# Altium integrated library ALPHA Audio Processor.IntLib: 90 symbols (part 2 of 2)
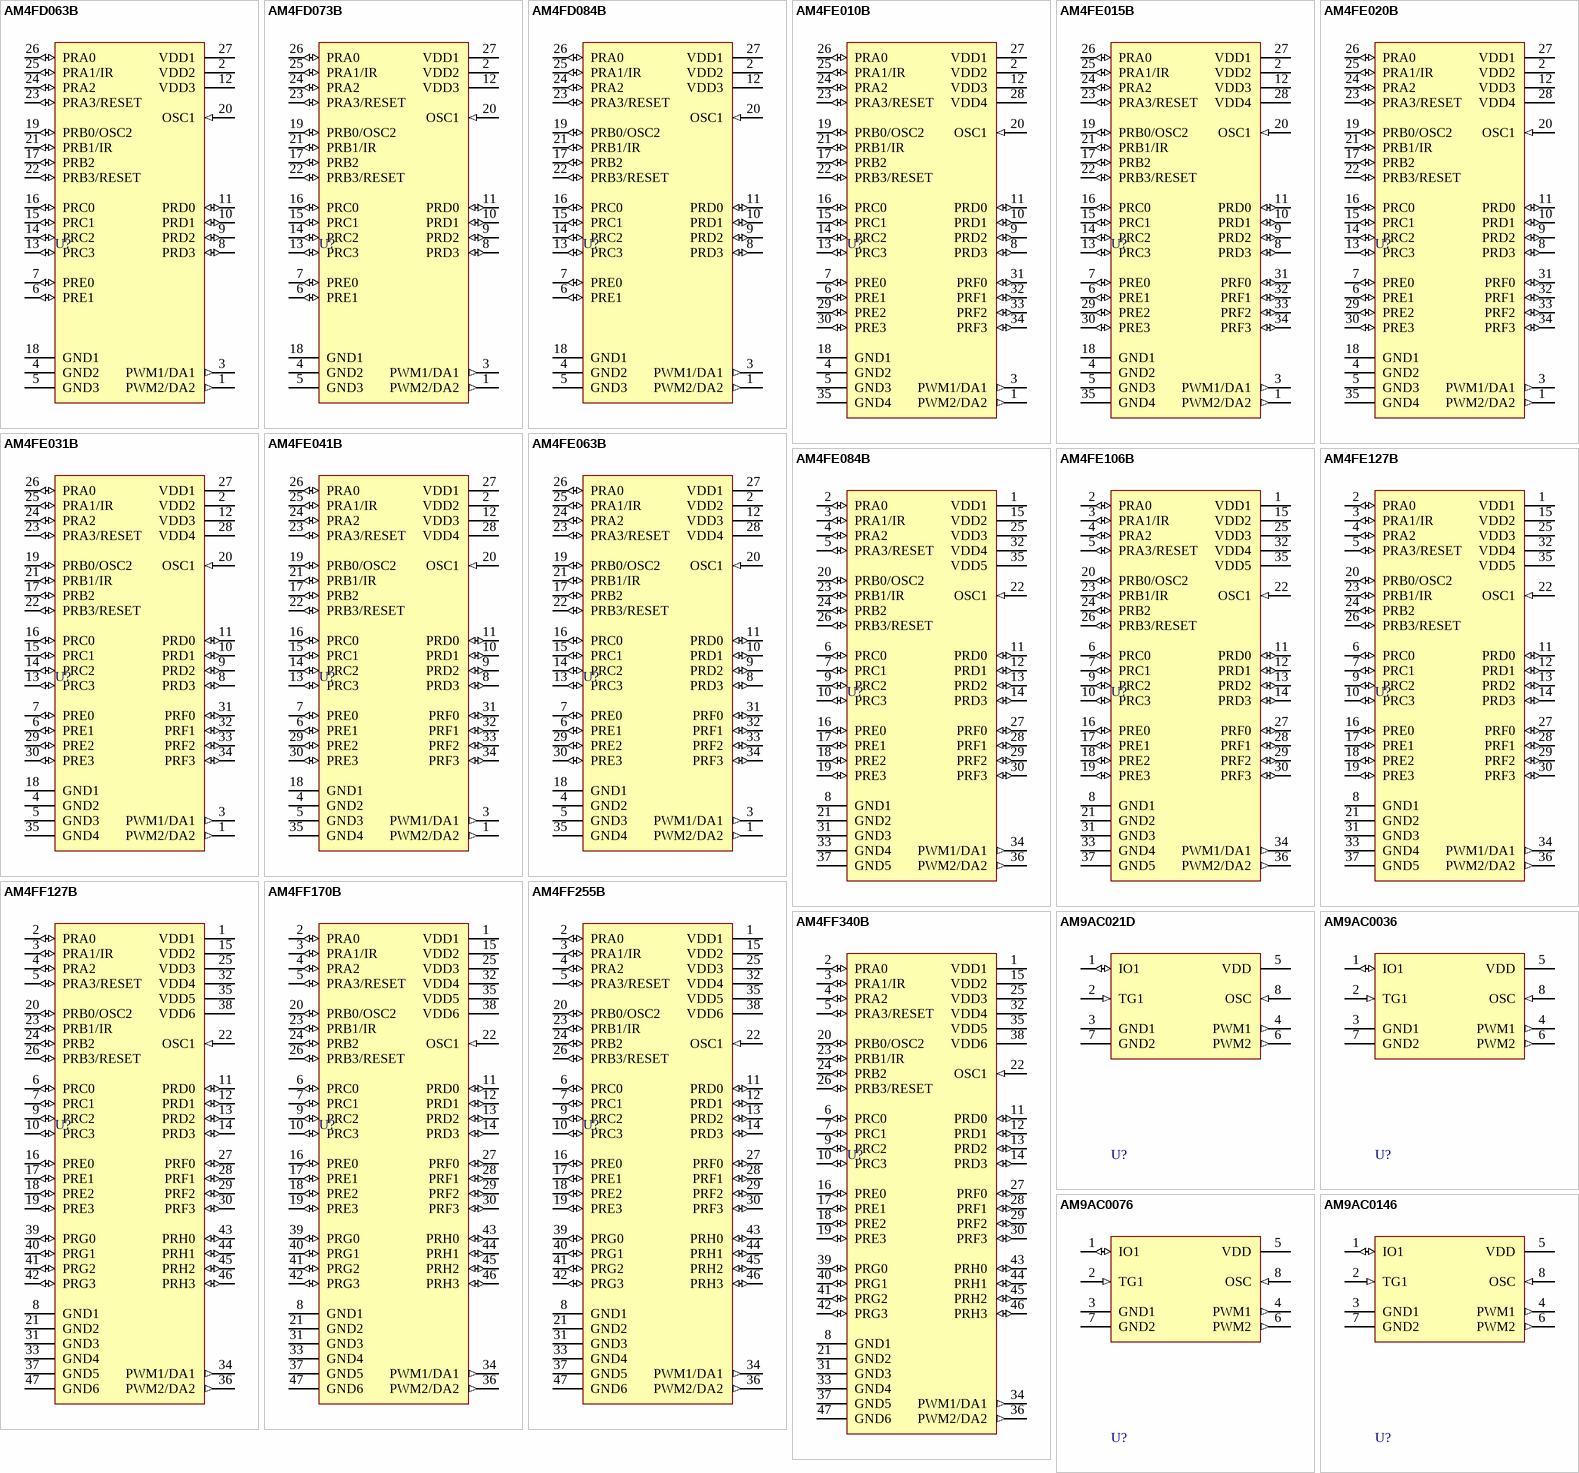
[diagram p4: symbols AM4FD063B to AM9AC0146]

## AM4FF127B
designator U?
AM4FE Series 4-Bit Audio Synthesizer with 127 Second Voice Duration and 384k x 12-Bit ROM, Chip Form; PackageForm: Supplied as a Die.; Note: The IC substrate must be connected to GND.; Published: 30-Mar-2007; DatasheetVersion: rev1.2, 2005; PackageReference: Chip_Form; Publisher: Altium Limited; ComponentLink1Description: Manufacturer Link; ComponentLink1URL: http://www.ealpha.com.tw/
pins: 1 VDD1 (power), 2 PRA0 (io), 3 PRA1/IR (io), 4 PRA2 (io), 5 PRA3/RESET (io), 6 PRC0 (io), 7 PRC1 (io), 8 GND1 (power), 9 PRC2 (io), 10 PRC3 (io), 11 PRD0 (io), 12 PRD1 (io), 13 PRD2 (io), 14 PRD3 (io), 15 VDD2 (power), 16 PRE0 (io), 17 PRE1 (io), 18 PRE2 (io), 19 PRE3 (io), 20 PRB0/OSC2 (io), 21 GND2 (power), 22 OSC1 (in), 23 PRB1/IR (io), 24 PRB2 (io), 25 VDD3 (power), 26 PRB3/RESET (io), 27 PRF0 (io), 28 PRF1 (io), 29 PRF2 (io), 30 PRF3 (io), 31 GND3 (power), 32 VDD4 (power), 33 GND4 (power), 34 PWM1/DA1 (out), 35 VDD5 (power), 36 PWM2/DA2 (out), 37 GND5 (power), 38 VDD6 (power), 39 PRG0 (io), 40 PRG1 (io), 41 PRG2 (io), 42 PRG3 (io), 43 PRH0 (io), 44 PRH1 (io), 45 PRH2 (io), 46 PRH3 (io), 47 GND6 (power)

## AM4FF170B
designator U?
AM4FE Series 4-Bit Audio Synthesizer with 170 Second Voice Duration and 512k x 12-Bit ROM, Chip Form; PackageForm: Supplied as a Die.; Note: The IC substrate must be connected to GND.; Published: 30-Mar-2007; DatasheetVersion: rev1.2, 2005; PackageReference: Chip_Form; Publisher: Altium Limited; ComponentLink1Description: Manufacturer Link; ComponentLink1URL: http://www.ealpha.com.tw/
pins: 1 VDD1 (power), 2 PRA0 (io), 3 PRA1/IR (io), 4 PRA2 (io), 5 PRA3/RESET (io), 6 PRC0 (io), 7 PRC1 (io), 8 GND1 (power), 9 PRC2 (io), 10 PRC3 (io), 11 PRD0 (io), 12 PRD1 (io), 13 PRD2 (io), 14 PRD3 (io), 15 VDD2 (power), 16 PRE0 (io), 17 PRE1 (io), 18 PRE2 (io), 19 PRE3 (io), 20 PRB0/OSC2 (io), 21 GND2 (power), 22 OSC1 (in), 23 PRB1/IR (io), 24 PRB2 (io), 25 VDD3 (power), 26 PRB3/RESET (io), 27 PRF0 (io), 28 PRF1 (io), 29 PRF2 (io), 30 PRF3 (io), 31 GND3 (power), 32 VDD4 (power), 33 GND4 (power), 34 PWM1/DA1 (out), 35 VDD5 (power), 36 PWM2/DA2 (out), 37 GND5 (power), 38 VDD6 (power), 39 PRG0 (io), 40 PRG1 (io), 41 PRG2 (io), 42 PRG3 (io), 43 PRH0 (io), 44 PRH1 (io), 45 PRH2 (io), 46 PRH3 (io), 47 GND6 (power)

## AM4FF255B
designator U?
AM4FE Series 4-Bit Audio Synthesizer with 255 Second Voice Duration and 768k x 12-Bit ROM, Chip Form; PackageForm: Supplied as a Die.; Note: The IC substrate must be connected to GND.; Published: 30-Mar-2007; DatasheetVersion: rev1.2, 2005; PackageReference: Chip_Form; Publisher: Altium Limited; ComponentLink1Description: Manufacturer Link; ComponentLink1URL: http://www.ealpha.com.tw/
pins: 1 VDD1 (power), 2 PRA0 (io), 3 PRA1/IR (io), 4 PRA2 (io), 5 PRA3/RESET (io), 6 PRC0 (io), 7 PRC1 (io), 8 GND1 (power), 9 PRC2 (io), 10 PRC3 (io), 11 PRD0 (io), 12 PRD1 (io), 13 PRD2 (io), 14 PRD3 (io), 15 VDD2 (power), 16 PRE0 (io), 17 PRE1 (io), 18 PRE2 (io), 19 PRE3 (io), 20 PRB0/OSC2 (io), 21 GND2 (power), 22 OSC1 (in), 23 PRB1/IR (io), 24 PRB2 (io), 25 VDD3 (power), 26 PRB3/RESET (io), 27 PRF0 (io), 28 PRF1 (io), 29 PRF2 (io), 30 PRF3 (io), 31 GND3 (power), 32 VDD4 (power), 33 GND4 (power), 34 PWM1/DA1 (out), 35 VDD5 (power), 36 PWM2/DA2 (out), 37 GND5 (power), 38 VDD6 (power), 39 PRG0 (io), 40 PRG1 (io), 41 PRG2 (io), 42 PRG3 (io), 43 PRH0 (io), 44 PRH1 (io), 45 PRH2 (io), 46 PRH3 (io), 47 GND6 (power)

## AM4FF340B
designator U?
AM4FE Series 4-Bit Audio Synthesizer with 340 Second Voice Duration and 1024k x 12-Bit ROM, Chip Form; PackageForm: Supplied as a Die.; Note: The IC substrate must be connected to GND.; Published: 30-Mar-2007; DatasheetVersion: rev1.2, 2005; PackageReference: Chip_Form; Publisher: Altium Limited; ComponentLink1Description: Manufacturer Link; ComponentLink1URL: http://www.ealpha.com.tw/
pins: 1 VDD1 (power), 2 PRA0 (io), 3 PRA1/IR (io), 4 PRA2 (io), 5 PRA3/RESET (io), 6 PRC0 (io), 7 PRC1 (io), 8 GND1 (power), 9 PRC2 (io), 10 PRC3 (io), 11 PRD0 (io), 12 PRD1 (io), 13 PRD2 (io), 14 PRD3 (io), 15 VDD2 (power), 16 PRE0 (io), 17 PRE1 (io), 18 PRE2 (io), 19 PRE3 (io), 20 PRB0/OSC2 (io), 21 GND2 (power), 22 OSC1 (in), 23 PRB1/IR (io), 24 PRB2 (io), 25 VDD3 (power), 26 PRB3/RESET (io), 27 PRF0 (io), 28 PRF1 (io), 29 PRF2 (io), 30 PRF3 (io), 31 GND3 (power), 32 VDD4 (power), 33 GND4 (power), 34 PWM1/DA1 (out), 35 VDD5 (power), 36 PWM2/DA2 (out), 37 GND5 (power), 38 VDD6 (power), 39 PRG0 (io), 40 PRG1 (io), 41 PRG2 (io), 42 PRG3 (io), 43 PRH0 (io), 44 PRH1 (io), 45 PRH2 (io), 46 PRH3 (io), 47 GND6 (power)

## AM9AC021D
designator U?
AM9AC Series 4-Bit Voice Synthesizer with up to 8 voice sections, 21 seconds in length, Chip Form; PackageForm: Supplied as a Die.; Note: The IC substrate must be connected to GND.; Published: 30-Mar-2007; DatasheetVersion: rev1.5, 2005; PackageReference: Chip_Form; Publisher: Altium Limited; ComponentLink1Description: Manufacturer Link; ComponentLink1URL: http://www.ealpha.com.tw/
pins: 1 IO1 (io), 2 TG1 (in), 3 GND1 (power), 4 PWM1 (out), 5 VDD (power), 6 PWM2 (out), 7 GND2 (power), 8 OSC (in)

## AM9AC0036
designator U?
AM9AC Series 4-Bit Voice Synthesizer with up to 8 voice sections, 3.5 seconds in length, Chip Form; PackageForm: Supplied as a Die.; Note: The IC substrate must be connected to GND.; Published: 30-Mar-2007; DatasheetVersion: rev1.5, 2005; PackageReference: Chip_Form; Publisher: Altium Limited; ComponentLink1Description: Manufacturer Link; ComponentLink1URL: http://www.ealpha.com.tw/
pins: 1 IO1 (io), 2 TG1 (in), 3 GND1 (power), 4 PWM1 (out), 5 VDD (power), 6 PWM2 (out), 7 GND2 (power), 8 OSC (in)

## AM9AC0076
designator U?
AM9AC Series 4-Bit Voice Synthesizer with up to 8 voice sections, 7 seconds in length, Chip Form; PackageForm: Supplied as a Die.; Note: The IC substrate must be connected to GND.; Published: 30-Mar-2007; DatasheetVersion: rev1.5, 2005; PackageReference: Chip_Form; Publisher: Altium Limited; ComponentLink1Description: Manufacturer Link; ComponentLink1URL: http://www.ealpha.com.tw/
pins: 1 IO1 (io), 2 TG1 (in), 3 GND1 (power), 4 PWM1 (out), 5 VDD (power), 6 PWM2 (out), 7 GND2 (power), 8 OSC (in)

## AM9AC0146
designator U?
AM9AC Series 4-Bit Voice Synthesizer with up to 8 voice sections, 14 seconds in length, Chip Form; PackageForm: Supplied as a Die.; Note: The IC substrate must be connected to GND.; Published: 30-Mar-2007; DatasheetVersion: rev1.5, 2005; PackageReference: Chip_Form; Publisher: Altium Limited; ComponentLink1Description: Manufacturer Link; ComponentLink1URL: http://www.ealpha.com.tw/
pins: 1 IO1 (io), 2 TG1 (in), 3 GND1 (power), 4 PWM1 (out), 5 VDD (power), 6 PWM2 (out), 7 GND2 (power), 8 OSC (in)

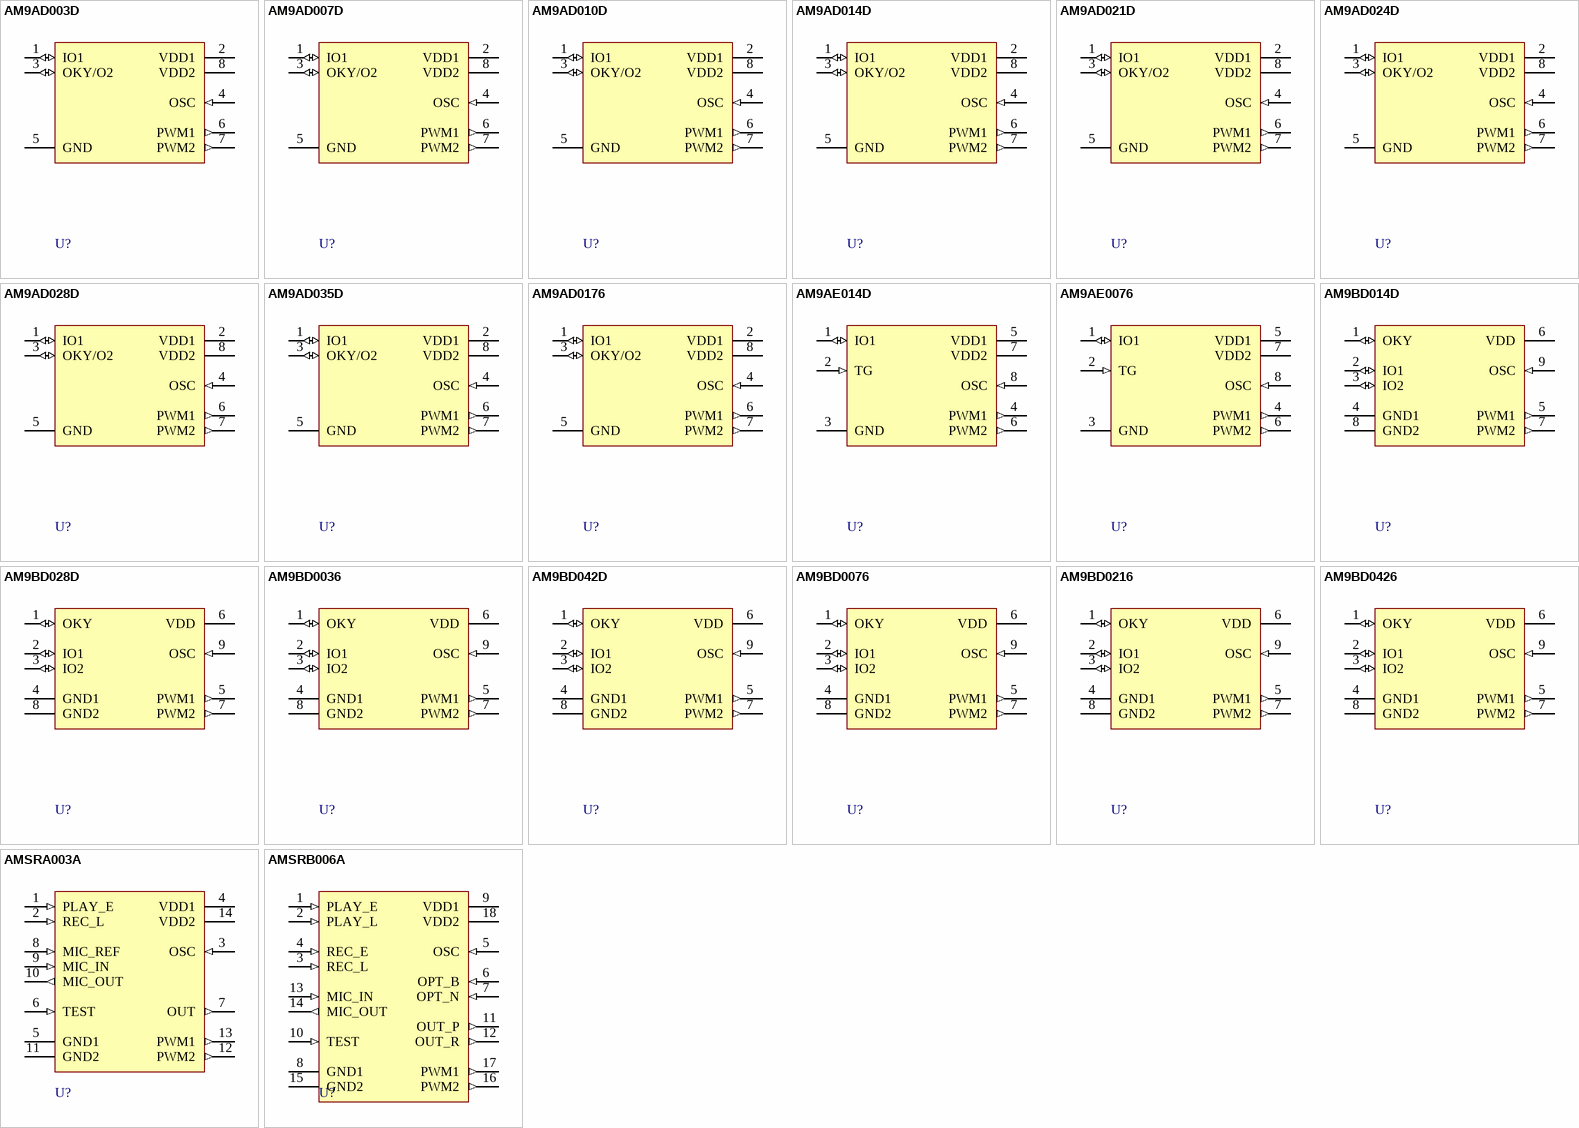
[diagram p3: symbols AM9AD003D to AMSRB006A]

## AM9AD003D
designator U?
AM9AD Series 4-Bit Voice Synthesizer with up to 32 voice sections, 3.5 seconds in length, Chip Form; PackageForm: Supplied as a Die.; Note: The IC substrate must be connected to GND.; Published: 30-Mar-2007; DatasheetVersion: rev1.3, 2006; PackageReference: Chip_Form; Publisher: Altium Limited; ComponentLink1Description: Manufacturer Link; ComponentLink1URL: http://www.ealpha.com.tw/
pins: 1 IO1 (io), 2 VDD1 (power), 3 OKY/O2 (io), 4 OSC (in), 5 GND (power), 6 PWM1 (out), 7 PWM2 (out), 8 VDD2 (power)

## AM9AD007D
designator U?
AM9AD Series 4-Bit Voice Synthesizer with up to 32 voice sections, 7 seconds in length, Chip Form; PackageForm: Supplied as a Die.; Note: The IC substrate must be connected to GND.; Published: 30-Mar-2007; DatasheetVersion: rev1.3, 2006; PackageReference: Chip_Form; Publisher: Altium Limited; ComponentLink1Description: Manufacturer Link; ComponentLink1URL: http://www.ealpha.com.tw/
pins: 1 IO1 (io), 2 VDD1 (power), 3 OKY/O2 (io), 4 OSC (in), 5 GND (power), 6 PWM1 (out), 7 PWM2 (out), 8 VDD2 (power)

## AM9AD010D
designator U?
AM9AD Series 4-Bit Voice Synthesizer with up to 32 voice sections, 10.5 seconds in length, Chip Form; PackageForm: Supplied as a Die.; Note: The IC substrate must be connected to GND.; Published: 30-Mar-2007; DatasheetVersion: rev1.3, 2006; PackageReference: Chip_Form; Publisher: Altium Limited; ComponentLink1Description: Manufacturer Link; ComponentLink1URL: http://www.ealpha.com.tw/
pins: 1 IO1 (io), 2 VDD1 (power), 3 OKY/O2 (io), 4 OSC (in), 5 GND (power), 6 PWM1 (out), 7 PWM2 (out), 8 VDD2 (power)

## AM9AD014D
designator U?
AM9AD Series 4-Bit Voice Synthesizer with up to 32 voice sections, 14 seconds in length, Chip Form; PackageForm: Supplied as a Die.; Note: The IC substrate must be connected to GND.; Published: 30-Mar-2007; DatasheetVersion: rev1.3, 2006; PackageReference: Chip_Form; Publisher: Altium Limited; ComponentLink1Description: Manufacturer Link; ComponentLink1URL: http://www.ealpha.com.tw/
pins: 1 IO1 (io), 2 VDD1 (power), 3 OKY/O2 (io), 4 OSC (in), 5 GND (power), 6 PWM1 (out), 7 PWM2 (out), 8 VDD2 (power)

## AM9AD021D
designator U?
AM9AD Series 4-Bit Voice Synthesizer with up to 32 voice sections, 21 seconds in length, Chip Form; PackageForm: Supplied as a Die.; Note: The IC substrate must be connected to GND.; Published: 30-Mar-2007; DatasheetVersion: rev1.3, 2006; PackageReference: Chip_Form; Publisher: Altium Limited; ComponentLink1Description: Manufacturer Link; ComponentLink1URL: http://www.ealpha.com.tw/
pins: 1 IO1 (io), 2 VDD1 (power), 3 OKY/O2 (io), 4 OSC (in), 5 GND (power), 6 PWM1 (out), 7 PWM2 (out), 8 VDD2 (power)

## AM9AD024D
designator U?
AM9AD Series 4-Bit Voice Synthesizer with up to 32 voice sections, 24.5 seconds in length, Chip Form; PackageForm: Supplied as a Die.; Note: The IC substrate must be connected to GND.; Published: 30-Mar-2007; DatasheetVersion: rev1.3, 2006; PackageReference: Chip_Form; Publisher: Altium Limited; ComponentLink1Description: Manufacturer Link; ComponentLink1URL: http://www.ealpha.com.tw/
pins: 1 IO1 (io), 2 VDD1 (power), 3 OKY/O2 (io), 4 OSC (in), 5 GND (power), 6 PWM1 (out), 7 PWM2 (out), 8 VDD2 (power)

## AM9AD028D
designator U?
AM9AD Series 4-Bit Voice Synthesizer with up to 32 voice sections, 28 seconds in length, Chip Form; PackageForm: Supplied as a Die.; Note: The IC substrate must be connected to GND.; Published: 30-Mar-2007; DatasheetVersion: rev1.3, 2006; PackageReference: Chip_Form; Publisher: Altium Limited; ComponentLink1Description: Manufacturer Link; ComponentLink1URL: http://www.ealpha.com.tw/
pins: 1 IO1 (io), 2 VDD1 (power), 3 OKY/O2 (io), 4 OSC (in), 5 GND (power), 6 PWM1 (out), 7 PWM2 (out), 8 VDD2 (power)

## AM9AD035D
designator U?
AM9AD Series 4-Bit Voice Synthesizer with up to 32 voice sections, 35 seconds in length, Chip Form; PackageForm: Supplied as a Die.; Note: The IC substrate must be connected to GND.; Published: 30-Mar-2007; DatasheetVersion: rev1.3, 2006; PackageReference: Chip_Form; Publisher: Altium Limited; ComponentLink1Description: Manufacturer Link; ComponentLink1URL: http://www.ealpha.com.tw/
pins: 1 IO1 (io), 2 VDD1 (power), 3 OKY/O2 (io), 4 OSC (in), 5 GND (power), 6 PWM1 (out), 7 PWM2 (out), 8 VDD2 (power)

## AM9AD0176
designator U?
AM9AD Series 4-Bit Voice Synthesizer with up to 32 voice sections, 17.5 seconds in length, Chip Form; PackageForm: Supplied as a Die.; Note: The IC substrate must be connected to GND.; Published: 30-Mar-2007; DatasheetVersion: rev1.3, 2006; PackageReference: Chip_Form; Publisher: Altium Limited; ComponentLink1Description: Manufacturer Link; ComponentLink1URL: http://www.ealpha.com.tw/
pins: 1 IO1 (io), 2 VDD1 (power), 3 OKY/O2 (io), 4 OSC (in), 5 GND (power), 6 PWM1 (out), 7 PWM2 (out), 8 VDD2 (power)

## AM9AE014D
designator U?
AM9AE Series 4-Bit Voice Synthesizer with up to 8 voice sections, 14 seconds in length, Chip Form; PackageForm: Supplied as a Die.; Note: The IC substrate must be connected to GND.; Published: 30-Mar-2007; DatasheetVersion: rev1.2, 2005; PackageReference: Chip_Form; Publisher: Altium Limited; ComponentLink1Description: Manufacturer Link; ComponentLink1URL: http://www.ealpha.com.tw/
pins: 1 IO1 (io), 2 TG (in), 3 GND (power), 4 PWM1 (out), 5 VDD1 (power), 6 PWM2 (out), 7 VDD2 (power), 8 OSC (in)

## AM9AE0076
designator U?
AM9AE Series 4-Bit Voice Synthesizer with up to 8 voice sections, 7 seconds in length, Chip Form; PackageForm: Supplied as a Die.; Note: The IC substrate must be connected to GND.; Published: 30-Mar-2007; DatasheetVersion: rev1.2, 2005; PackageReference: Chip_Form; Publisher: Altium Limited; ComponentLink1Description: Manufacturer Link; ComponentLink1URL: http://www.ealpha.com.tw/
pins: 1 IO1 (io), 2 TG (in), 3 GND (power), 4 PWM1 (out), 5 VDD1 (power), 6 PWM2 (out), 7 VDD2 (power), 8 OSC (in)

## AM9BD014D
designator U?
AM9BD Series 4-Bit Voice Synthesizer with up to 32 voice sections, 14 seconds in length, Chip Form; PackageForm: Supplied as a Die.; Note: The IC substrate must be connected to GND.; Published: 30-Mar-2007; DatasheetVersion: rev1.3, 2005; PackageReference: Chip_Form; Publisher: Altium Limited; ComponentLink1Description: Manufacturer Link; ComponentLink1URL: http://www.ealpha.com.tw/
pins: 1 OKY (io), 2 IO1 (io), 3 IO2 (io), 4 GND1 (power), 5 PWM1 (out), 6 VDD (power), 7 PWM2 (out), 8 GND2 (power), 9 OSC (in)

## AM9BD028D
designator U?
AM9BD Series 4-Bit Voice Synthesizer with up to 32 voice sections, 28 seconds in length, Chip Form; PackageForm: Supplied as a Die.; Note: The IC substrate must be connected to GND.; Published: 30-Mar-2007; DatasheetVersion: rev1.3, 2005; PackageReference: Chip_Form; Publisher: Altium Limited; ComponentLink1Description: Manufacturer Link; ComponentLink1URL: http://www.ealpha.com.tw/
pins: 1 OKY (io), 2 IO1 (io), 3 IO2 (io), 4 GND1 (power), 5 PWM1 (out), 6 VDD (power), 7 PWM2 (out), 8 GND2 (power), 9 OSC (in)

## AM9BD0036
designator U?
AM9BD Series 4-Bit Voice Synthesizer with up to 32 voice sections, 3.5 seconds in length, Chip Form; PackageForm: Supplied as a Die.; Note: The IC substrate must be connected to GND.; Published: 30-Mar-2007; DatasheetVersion: rev1.3, 2005; PackageReference: Chip_Form; Publisher: Altium Limited; ComponentLink1Description: Manufacturer Link; ComponentLink1URL: http://www.ealpha.com.tw/
pins: 1 OKY (io), 2 IO1 (io), 3 IO2 (io), 4 GND1 (power), 5 PWM1 (out), 6 VDD (power), 7 PWM2 (out), 8 GND2 (power), 9 OSC (in)

## AM9BD042D
designator U?
AM9BD Series 4-Bit Voice Synthesizer with up to 32 voice sections, 42 seconds in length, Chip Form; PackageForm: Supplied as a Die.; Note: The IC substrate must be connected to GND.; Published: 30-Mar-2007; DatasheetVersion: rev1.3, 2005; PackageReference: Chip_Form; Publisher: Altium Limited; ComponentLink1Description: Manufacturer Link; ComponentLink1URL: http://www.ealpha.com.tw/
pins: 1 OKY (io), 2 IO1 (io), 3 IO2 (io), 4 GND1 (power), 5 PWM1 (out), 6 VDD (power), 7 PWM2 (out), 8 GND2 (power), 9 OSC (in)

## AM9BD0076
designator U?
AM9BD Series 4-Bit Voice Synthesizer with up to 32 voice sections, 7 seconds in length, Chip Form; PackageForm: Supplied as a Die.; Note: The IC substrate must be connected to GND.; Published: 30-Mar-2007; DatasheetVersion: rev1.3, 2005; PackageReference: Chip_Form; Publisher: Altium Limited; ComponentLink1Description: Manufacturer Link; ComponentLink1URL: http://www.ealpha.com.tw/
pins: 1 OKY (io), 2 IO1 (io), 3 IO2 (io), 4 GND1 (power), 5 PWM1 (out), 6 VDD (power), 7 PWM2 (out), 8 GND2 (power), 9 OSC (in)

## AM9BD0216
designator U?
AM9BD Series 4-Bit Voice Synthesizer with up to 32 voice sections, 21 seconds in length, Chip Form; PackageForm: Supplied as a Die.; Note: The IC substrate must be connected to GND.; Published: 30-Mar-2007; DatasheetVersion: rev1.3, 2005; PackageReference: Chip_Form; Publisher: Altium Limited; ComponentLink1Description: Manufacturer Link; ComponentLink1URL: http://www.ealpha.com.tw/
pins: 1 OKY (io), 2 IO1 (io), 3 IO2 (io), 4 GND1 (power), 5 PWM1 (out), 6 VDD (power), 7 PWM2 (out), 8 GND2 (power), 9 OSC (in)

## AM9BD0426
designator U?
AM9BD Series 4-Bit Voice Synthesizer with up to 32 voice sections, 42 seconds in length, Chip Form; PackageForm: Supplied as a Die.; Note: The IC substrate must be connected to GND.; Published: 30-Mar-2007; DatasheetVersion: rev1.3, 2005; PackageReference: Chip_Form; Publisher: Altium Limited; ComponentLink1Description: Manufacturer Link; ComponentLink1URL: http://www.ealpha.com.tw/
pins: 1 OKY (io), 2 IO1 (io), 3 IO2 (io), 4 GND1 (power), 5 PWM1 (out), 6 VDD (power), 7 PWM2 (out), 8 GND2 (power), 9 OSC (in)

## AMSRA003A
designator U?
SRAM recording/playback IC for recording a message with 2 to 4 seconds duration, Chip Form; PackageForm: Supplied as a Die.; Note: The IC substrate must be connected to VDD.; Published: 30-Mar-2007; DatasheetVersion: rev1.0, 2005; PackageReference: Chip_Form; Publisher: Altium Limited; ComponentLink1Description: Manufacturer Link; ComponentLink1URL: http://www.ealpha.com.tw/
pins: 1 PLAY_E (in), 2 REC_L (in), 3 OSC (in), 4 VDD1 (power), 5 GND1 (power), 6 TEST (in), 7 OUT (out), 8 MIC_REF (in), 9 MIC_IN (in), 10 MIC_OUT (out), 11 GND2 (power), 12 PWM2 (out), 13 PWM1 (out), 14 VDD2 (power)

## AMSRB006A
designator U?
SRAM recording/playback IC for recording a message with 4 to 8 seconds duration, Chip Form; PackageForm: Supplied as a Die.; Note: The IC substrate must be connected to VDD.; Published: 30-Mar-2007; DatasheetVersion: rev1.1, 2005; PackageReference: Chip_Form; Publisher: Altium Limited; ComponentLink1Description: Manufacturer Link; ComponentLink1URL: http://www.ealpha.com.tw/
pins: 1 PLAY_E (in), 2 PLAY_L (in), 3 REC_L (in), 4 REC_E (in), 5 OSC (in), 6 OPT_B (in), 7 OPT_N (in), 8 GND1 (power), 9 VDD1 (power), 10 TEST (in), 11 OUT_P (out), 12 OUT_R (out), 13 MIC_IN (in), 14 MIC_OUT (out), 15 GND2 (power), 16 PWM2 (out), 17 PWM1 (out), 18 VDD2 (power)